# EAGLE library part W25Q16JVUXIQ (library W25Q16JVUXIQ)
Check availability <https://pricing.snapeda.com/parts/W25Q16JVUXIQ/Winbond/view-part?ref=eda>
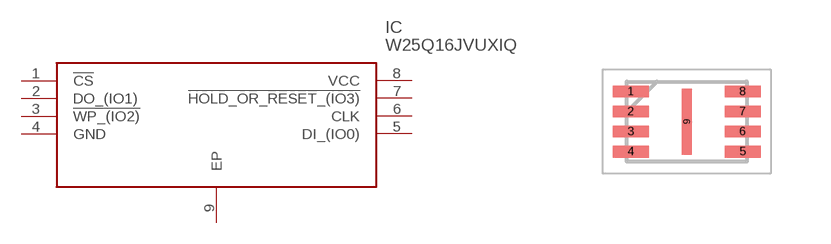
[diagram p0: symbol with the pads of SON50P300X200X60-9N; footprint SON50P300X200X60-9N]

Designator prefix IC

## W25Q16JVUXIQ  [SON50P300X200X60-9N]
1  !CS
2  DO_(IO1)
3  !WP_(IO2)
4  GND
5  DI_(IO0)
6  CLK
7  !HOLD_OR_RESET_(IO3)
8  VCC
9  EP

## Footprint SON50P300X200X60-9N (pad centres in mm)
USON 2x3x0.6-mm
smd 0.9 x 0.3: 1 -1.4,0.75; 2 -1.4,0.25; 3 -1.4,-0.25; 4 -1.4,-0.75; 5 1.4,-0.75; 6 1.4,-0.25; 7 1.4,0.25; 8 1.4,0.75
smd 0.25 x 1.65: 9 0,0